# Altium schematic symbol library 10K var resistance.SchLib: 1 symbol
Pins are listed as number, name and electrical type; pins without a type are passive.

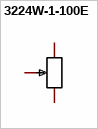
[diagram p0: symbol 3224W-1-100E]

## 3224W-1-100E
designator R?  (value not drawn)
Manufacturer: BOURNS; Add into BOM: yes; Value: 10Ω; Tolerance: ±10%; Temperature Coefficient: ±100ppm/℃; Symbol: 3224W-1-100E; Device: 3224W-1-100E; LCSC Part Name: 10Ω ±10%; Supplier Part: C116317; Manufacturer Part: 3224W-1-100E; Supplier Footprint: SMD; JLCPCB Part Class: Extended Part; Datasheet: https://atta.szlcsc.com/upload/public/pdf/source/20170630/1498816666853.pdf; Supplier: LCSC; Convert to PCB: yes
footprint RES-ADJ-SMD_3224W
footprint PCBComponent_1
pins: 1, 2, 3